# Altium footprint library RFID_CC1101_433MHz.PcbLib: 103 footprints (part 4 of 7)
Each footprint in its own frame and in the unit in brackets; x right, y up, seen from the top. Pads: shape width x height; smd on the part's side, far side on the other; paste and mask are expansions set on the pad; w line width, h text height; cw(c..) or ccw(c..) is an arc to the next point about the centre after c.
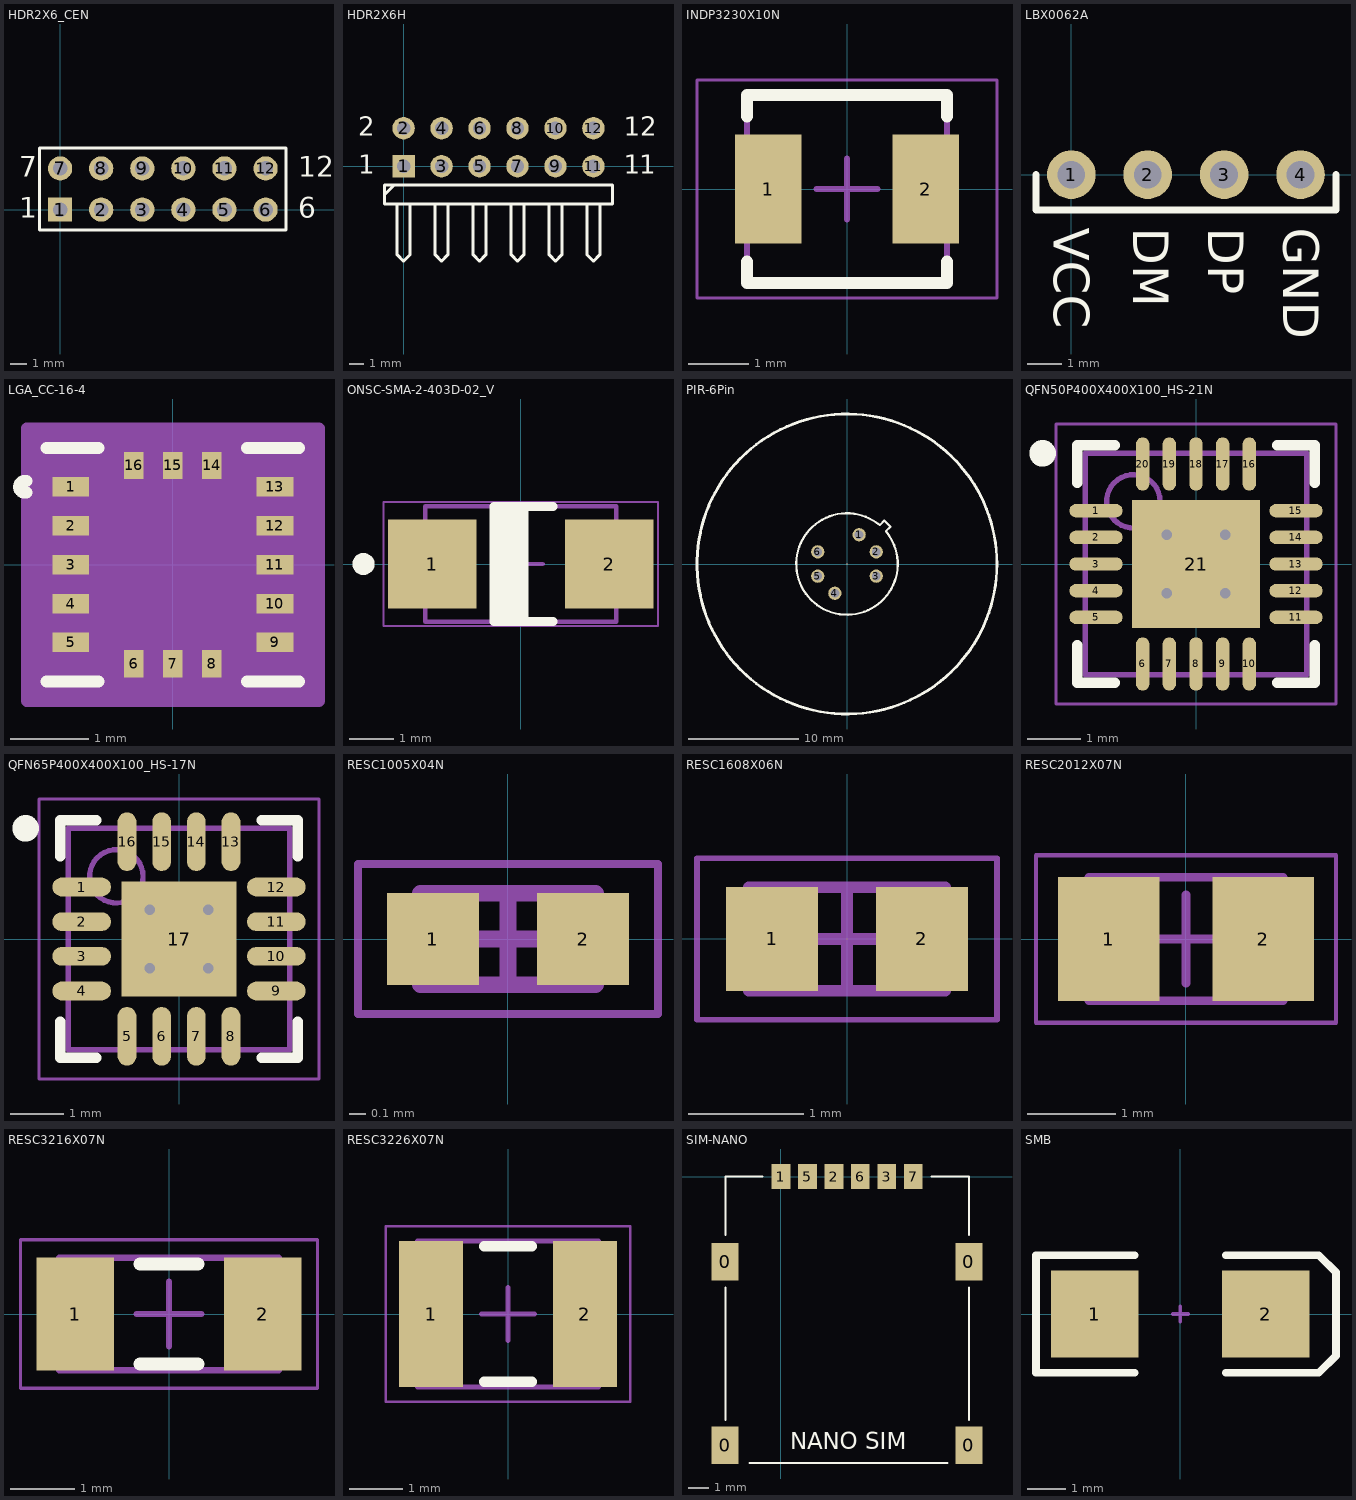
[diagram p3: the footprints below, top view; thin cyan lines are the x and y axes]

## HDR2X6_CEN [mm] "Connector; Header; 6x2 Position"
pads (12):
  rect 1.5x1.5 hole 0.9: 1(0,0)
  round 1.5 hole 0.9: 2(2.54,0) 3(5.08,0) 4(7.62,0) 5(10.16,0) 6(12.7,0) 7(0,2.54) 8(2.54,2.54) 9(5.08,2.54) 10(7.62,2.54) 11(10.16,2.54) 12(12.7,2.54)
Top Overlay:
  lines w0.2: -1.27,-1.27 13.97,-1.27 13.97,3.81 -1.27,3.81 -1.27,-1.27
  text "12" at 14.732,2.032 h1.27
  text "6" at 14.732,-0.508 h1.27
  text "1" at -2.54,-0.508 h1.27
  text "7" at -2.54,2.032 h1.27

## HDR2X6H [mm] "Connector; Header; 6x2 Position; Right Angle"
pads (12):
  rect 1.5x1.5 hole 0.9: 1(0,0)
  round 1.5 hole 0.9: 2(0,2.54) 3(2.54,0) 4(2.54,2.54) 5(5.08,0) 6(5.08,2.54) 7(7.62,0) 8(7.62,2.54) 9(10.16,0) 10(10.16,2.54) 11(12.7,0) 12(12.7,2.54)
Top Overlay:
  lines w0.2: -1.27,-1.905 -0.635,-1.27 ; -0.423,-2.54 -0.423,-5.927 0,-6.35 0.423,-5.927 0.423,-2.54 ; 2.117,-2.54 2.117,-5.927 2.54,-6.35 2.963,-5.927 2.963,-2.54 ; 4.657,-2.54 4.657,-5.927 5.08,-6.35 5.503,-5.927 5.503,-2.54 ; 7.197,-2.54 7.197,-5.927 7.62,-6.35 8.043,-5.927 8.043,-2.54 ; 9.737,-2.54 9.737,-5.927 10.16,-6.35 10.583,-5.927 10.583,-2.54 ; 12.277,-2.54 12.277,-5.927 12.7,-6.35 13.123,-5.927 13.123,-2.54 ; -1.27,-2.54 -1.27,-1.27 13.97,-1.27 13.97,-2.54 -1.27,-2.54
  text "12" at 14.732,2.032 h1.27
  text "1" at 15.748,-0.508 h1.27
  text "1" at 14.732,-0.508 h1.27
  text "1" at -3.048,-0.508 h1.27
  text "2" at -3.048,2.032 h1.27

## INDP3230X10N [mm] "Precision Wire Wound Inductor, 2-Leads, Body 3.20x3.00mm, IPC Medium Density, For SPM3010T-2R2M-LR"
height 1
pads (2):
  rect 1.1x1.8 smd: 1(-1.3,0) 2(1.3,0)
Top Overlay:
  lines w0.2: -1.65,-1.2 -1.65,-1.55 1.65,-1.55 1.65,-1.2 ; -1.65,1.2 -1.65,1.55 1.65,1.55 1.65,1.2
Assembly Top:
  lines w0.1: -1.65,-1.55 1.65,-1.55 1.65,1.55 -1.65,1.55 -1.65,-1.55
Courtyard Top:
  lines w0.05: -2.475,-1.8 2.475,-1.8 2.475,1.8 -2.475,1.8 -2.475,-1.8
  lines w0.1: -0.5,0 0.5,0 ; 0,-0.5 0,0.5
3D body "INDP3230X10N.step": height 1.1, standoff 0, extent -1.7,-1.5 1.7,1.5

## LBX0062A [mm] "PogoPin; Connector; 4 Position"
pads (4):
  round 1.4 hole 0.8: 1(0,0) 2(2.2,0) 3(4.4,0) 4(6.6,0)
Top Overlay:
  lines w0.2: -1.016,0 -1.016,-1.016 7.62,-1.016 7.62,0
  text "VCC" at -0.508,-1.524 h1.02
  text "DM" at 1.778,-1.524 h1.02
  text "DP" at 3.937,-1.524 h1.02
  text "GND" at 6.096,-1.524 h1.02

## LGA_CC-16-4 [mm]
pads (16):
  rect 0.475x0.25 smd: 1(-1.313,1) 2(-1.313,0.5) 3(-1.313,0) 4(-1.313,-0.5) 5(-1.313,-1) 9(1.313,-1) 10(1.313,-0.5) 11(1.313,0) 12(1.313,0.5) 13(1.313,1)
  rect 0.25x0.35 smd: 6(-0.5,-1.275) 7(0,-1.275) 8(0.5,-1.275) 14(0.5,1.275) 15(0,1.275) 16(-0.5,1.275)
Top Overlay:
  lines w0.152: -1.883,0.926 cw(c-1.902,1) -1.883,1.074 ; -1.625,-1.5 -0.954,-1.5 ; -1.625,1.5 -0.954,1.5 ; 0.954,-1.5 1.625,-1.5 ; 0.954,1.5 1.625,1.5
Mechanical 13:
  circle w0: c-1.902,1 r0.076
  lines w0: -0.271,1.5 ccw(c0,1.5) 0.271,1.5
Mechanical 15:
  region: 1.879,-1.754 -1.879,-1.754 -1.879,1.754 1.879,1.754
  lines w0.152: -1.879,-1.754 -1.879,1.754 1.879,1.754 1.879,-1.754 -1.879,-1.754
3D body: height 0.25, standoff 0, extent 0,0 0.254,0.254

## ONSC-SMA-2-403D-02_V [mm] "Molded, 2-Leads, Body 4.57x2.92mm"
height 2.2
pads (2):
  rect 2x2 smd: 1(-2,0) 2(2,0)
Top Overlay:
  circle w0.25: c-3.55,0 r0.125
  rectangle: -0.6,-1.3 0.178,1.3
  lines w0.2: 0.735,-1.3 -0.6,-1.3 -0.6,1.3 0.735,1.3
Mechanical 13:
  lines w0.1: -2.16,-1.3 2.16,-1.3 2.16,1.3 -2.16,1.3 -2.16,-1.3
Mechanical 15:
  lines w0.05: -3.1,-1.4 -3.1,1.4 3.1,1.4 3.1,-1.4 -3.1,-1.4
  lines w0.1: -0.5,0 0.5,0 ; 0,-0.5 0,0.5
3D body: height 2.2, standoff 0.05, extent -2.16,-1.3 2.16,1.3

## PIR-6Pin [mm] "PIR; BS612; 6 Position;SENBA"
height 4.4
pads (6):
  round 1.2 hole 0.8: 1(1.1,2.65) 2(2.65,1.1) 3(2.65,-1.1) 4(-1.1,-2.65) 5(-2.65,-1.1) 6(-2.65,1.1)
Top Overlay:
  circle w0.254: c0,0 r13.6
  lines w0.1: 0,0 0,0.025 ; 3.524,2.957 3.524,2.965 ; 3.374,3.941 3.374,3.941
  lines w0.2: 3.524,2.957 cw(c0,0) 2.957,3.524 3.374,3.941 3.937,3.378 3.524,2.965

## QFN50P400X400X100_HS-21N [mm] "QFN, 20-Leads, Body 4.00x4.00mm, Pitch 0.50mm, Thermal Pad 2.40x2.40mm, IPC Medium Density"
height 1
pads (21):
  oval 1x0.25 smd: 1(-1.875,1) 2(-1.875,0.5) 3(-1.875,0) 4(-1.875,-0.5) 5(-1.875,-1) 11(1.875,-1) 12(1.875,-0.5) 13(1.875,0) 14(1.875,0.5) 15(1.875,1)
  oval 0.25x1 smd: 6(-1,-1.875) 7(-0.5,-1.875) 8(0,-1.875) 9(0.5,-1.875) 10(1,-1.875) 16(1,1.875) 17(0.5,1.875) 18(0,1.875) 19(-0.5,1.875) 20(-1,1.875)
  rect 2.4x2.4 smd: 21(0,0)
via -0.55,0.55 diameter 0.5 hole 0.2
via 0.55,0.55 diameter 0.5 hole 0.2
via -0.55,-0.55 diameter 0.5 hole 0.2
via 0.55,-0.55 diameter 0.5 hole 0.2
Top Overlay:
  circle w0.25: c-2.875,2.075 r0.125
  lines w0.2: -2.225,-1.525 -2.225,-2.225 -1.525,-2.225 ; -2.225,1.525 -2.225,2.225 -1.525,2.225 ; 1.525,-2.225 2.225,-2.225 2.225,-1.525 ; 1.525,2.225 2.225,2.225 2.225,1.525
Assembly Top:
  circle w0.1: c-1.175,1.175 r0.5
  lines w0.1: -2.075,-2.075 -2.075,2.075 2.075,2.075 2.075,-2.075 -2.075,-2.075
Courtyard Top:
  lines w0.05: -2.625,-2.625 -2.625,2.625 2.625,2.625 2.625,-2.625 -2.625,-2.625
  lines w0.1: -0.5,0 0.5,0 ; 0,-0.5 0,0.5
3D body "QFN50P400X400X100_HS-21N.step": height 1, standoff 0, extent -2.076,-2.076 2.076,2.076

## QFN65P400X400X100_HS-17N [mm] "QFN, 16-Leads, Body 4.00x4.00mm, Pitch 0.65mm, Thermal Pad 2.16x2.16mm, IPC Medium Density"
height 1
pads (17):
  oval 1.1x0.35 smd: 1(-1.825,0.975) 2(-1.825,0.325) 3(-1.825,-0.325) 4(-1.825,-0.975) 9(1.825,-0.975) 10(1.825,-0.325) 11(1.825,0.325) 12(1.825,0.975)
  oval 0.35x1.1 smd: 5(-0.975,-1.825) 6(-0.325,-1.825) 7(0.325,-1.825) 8(0.975,-1.825) 13(0.975,1.825) 14(0.325,1.825) 15(-0.325,1.825) 16(-0.975,1.825)
  rect 2.16x2.16 smd: 17(0,0)
via -0.55,0.55 diameter 0.5 hole 0.2
via 0.55,0.55 diameter 0.5 hole 0.2
via -0.55,-0.55 diameter 0.5 hole 0.2
via 0.55,-0.55 diameter 0.5 hole 0.2
Top Overlay:
  circle w0.25: c-2.875,2.075 r0.125
  lines w0.2: -2.225,-1.55 -2.225,-2.225 -1.55,-2.225 ; -2.225,1.55 -2.225,2.225 -1.55,2.225 ; 1.55,-2.225 2.225,-2.225 2.225,-1.55 ; 1.55,2.225 2.225,2.225 2.225,1.55
Assembly Top:
  circle w0.1: c-1.175,1.175 r0.5
  lines w0.1: -2.075,-2.075 -2.075,2.075 2.075,2.075 2.075,-2.075 -2.075,-2.075
Courtyard Top:
  lines w0.05: -2.625,-2.625 -2.625,2.625 2.625,2.625 2.625,-2.625 -2.625,-2.625
  lines w0.1: -0.5,0 0.5,0 ; 0,-0.5 0,0.5
3D body "QFN65P400X400X100_HS-17N.step": height 1, standoff 0, extent -2.076,-2.076 2.076,2.076

## RESC1005X04N [mm] "Chip Resistor, 2-Leads, Body 1.00x0.50mm, IPC Medium Density"
height 0.4
pads (2):
  rect 0.55x0.55 smd: 1(-0.45,0) 2(0.45,0)
Mechanical 13:
  lines w0.1: -0.525,-0.275 -0.525,0.275 0.525,0.275 0.525,-0.275 -0.525,-0.275
Mechanical 15:
  lines w0.05: -0.9,-0.45 -0.9,0.45 0.9,0.45 0.9,-0.45 -0.9,-0.45
  lines w0.1: -0.275,0 0.275,0 ; 0,-0.275 0,0.275
3D body "RESC1005X04N.step": height 0.4, standoff 0, extent -0.525,-0.275 0.525,0.275

## RESC1608X06N [mm] "Chip Resistor, 2-Leads, Body 1.60x0.80mm, IPC Medium Density"
height 0.55
pads (2):
  rect 0.8x0.9 smd: 1(-0.65,0) 2(0.65,0)
Mechanical 13:
  lines w0.1: -0.85,-0.45 -0.85,0.45 0.85,0.45 0.85,-0.45 -0.85,-0.45
Mechanical 15:
  lines w0.05: -1.3,-0.7 -1.3,0.7 1.3,0.7 1.3,-0.7 -1.3,-0.7
  lines w0.1: -0.45,0 0.45,0 ; 0,-0.45 0,0.45
3D body "RESC1608X06N.step": height 0.55, standoff 0, extent -0.85,-0.45 0.85,0.45

## RESC2012X07N [mm] "Chip Resistor, 2-Leads, Body 2.00x1.25mm, IPC Medium Density"
height 0.65
pads (2):
  rect 1.15x1.4 smd: 1(-0.875,0) 2(0.875,0)
Mechanical 13:
  lines w0.1: -1.1,-0.7 1.1,-0.7 1.1,0.7 -1.1,0.7 -1.1,-0.7
Mechanical 15:
  lines w0.05: -1.7,-0.95 1.7,-0.95 1.7,0.95 -1.7,0.95 -1.7,-0.95
  lines w0.1: -0.5,0 0.5,0 ; 0,-0.5 0,0.5
3D body "RESC2012X07N.step": height 0.65, standoff 0, extent -1.1,-0.7 1.1,0.7

## RESC3216X07N [mm] "Chip Resistor, 2-Leads, Body 3.20x1.60mm, IPC Medium Density"
height 0.65
pads (2):
  rect 1.2x1.75 smd: 1(-1.45,0) 2(1.45,0)
Top Overlay:
  lines w0.2: -0.45,-0.775 0.45,-0.775 ; -0.45,0.775 0.45,0.775
Mechanical 13:
  lines w0.1: -1.7,-0.875 -1.7,0.875 1.7,0.875 1.7,-0.875 -1.7,-0.875
Mechanical 15:
  lines w0.05: -2.3,-1.15 -2.3,1.15 2.3,1.15 2.3,-1.15 -2.3,-1.15
  lines w0.1: -0.5,0 0.5,0 ; 0,-0.5 0,0.5
3D body "RESC3216X07N.step": height 0.65, standoff 0, extent -1.7,-0.875 1.7,0.875

## RESC3226X07N [mm] "Chip Resistor, 2-Leads, Body 3.20x2.55mm, IPC Medium Density"
height 0.65
pads (2):
  rect 1.2x2.75 smd: 1(-1.45,0) 2(1.45,0)
Top Overlay:
  lines w0.2: -0.45,-1.275 0.45,-1.275 ; -0.45,1.275 0.45,1.275
Mechanical 13:
  lines w0.1: -1.7,-1.375 -1.7,1.375 1.7,1.375 1.7,-1.375 -1.7,-1.375
Mechanical 15:
  lines w0.05: -2.3,-1.65 -2.3,1.65 2.3,1.65 2.3,-1.65 -2.3,-1.65
  lines w0.1: -0.5,0 0.5,0 ; 0,-0.5 0,0.5
3D body "RESC3226X07N.step": height 0.65, standoff 0, extent -1.7,-1.375 1.7,1.375

## SIM-NANO [mm] "Base, 6P."
pads (10):
  rect 1.3x1.8 smd: 0(-2.68,-12.9) 0(-2.68,-4.1) 0(9.02,-12.9) 0(9.02,-4.1)
  rect 0.9x1.2 smd: 1(0,0) 2(2.54,0) 3(5.08,0) 5(1.27,0) 6(3.81,0) 7(6.35,0)
Top Overlay:
  lines w0.1: -2.667,-11.684 -2.667,-5.334 ; -2.667,-2.794 -2.667,0 -0.889,0 ; -1.5,-13.76 8,-13.76 ; 7.239,0 9.017,0 9.017,-2.794 ; 9.017,-11.684 9.017,-5.334
  text "NANO SIM" at 0.45,-13.09 h0.8

## SMB [mm] "DO-214-AA/SMB; 2 C-Bend Leads; Body 5.3 x 3.6 mm, inc. leads (LxW)"
height 2.54
pads (2):
  rect 2.3x2.3 smd: 1(-2.25,0) 2(2.25,0)
Top Overlay:
  lines w0.2: -1.2,-1.55 -3.8,-1.55 -3.8,1.55 -1.2,1.55 ; 1.2,-1.55 3.65,-1.55 4.1,-1.1 4.1,1.1 3.65,1.55 1.2,1.55
Mechanical 1:
  lines w0.1: -0.2,0 0.2,0 ; 0,-0.2 0,0.2